# Altium integrated library INDUCTOR.IntLib: 1 symbol
Pins are listed as number, name and electrical type; pins without a type are passive.

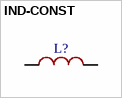
[diagram p0: symbol IND-CONST]

## IND-CONST
designator L?
footprint IND-7850
pins: 1, 2